# Altium schematic symbol library FAN3227TMX.SchLib: 1 symbol
Pins are listed as number, name and electrical type; pins without a type are passive.

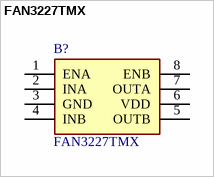
[diagram p0: symbol FAN3227TMX]

## FAN3227TMX
designator B?
Four Versions of Dual Independent Drivers: ; 3A Peak Sink/Source at VDD = 12V ; Dual Inverting + Enable (FAN3226) ; Typical Propagation Delay Under 20ns Matched within 1ns to the Other Channel ; 4.5 to 18V Operating Range ; 8-Lead 3x3mm MLP or 8-Lead SOIC Package ; Dual Non-Inverting + Enable (FAN3227) ; Dual-Inputs in Two Pin-Out Configurations:  Compatible with FAN3225x (FAN3228)  Compatible with TPS2814D (FAN3229) ; MillerDrive Technology ; 12ns / 9ns Typical Rise/Fall Times with 1nF Load ; Intern; Manufacturer_Name: onsemi; Geometry.Height: 1.75mm; Mouser Part Number: 512-FAN3227TMX; Mouser Price/Stock: https://www.mouser.co.uk/ProductDetail/onsemi-Fairchild/FAN3227TMX?qs=ODlIKnK5hgdsmwIkcdhHGg%3D%3D; Manufacturer_Part_Number: FAN3227TMX; Datasheet Link: https://www.onsemi.com/pub/Collateral/FAN3229T-D.PDF
footprint SOIC127P600X175-8N
pins: 1 ENA, 2 INA, 3 GND, 4 INB, 5 OUTB, 6 VDD, 7 OUTA, 8 ENB